# Altium footprint library PCB Library.PcbLib: 18 footprints (part 1 of 2)
Each footprint in its own frame and in the unit in brackets; x right, y up, seen from the top. Pads: shape width x height; smd on the part's side, far side on the other; paste and mask are expansions set on the pad; w line width, h text height; cw(c..) or ccw(c..) is an arc to the next point about the centre after c.
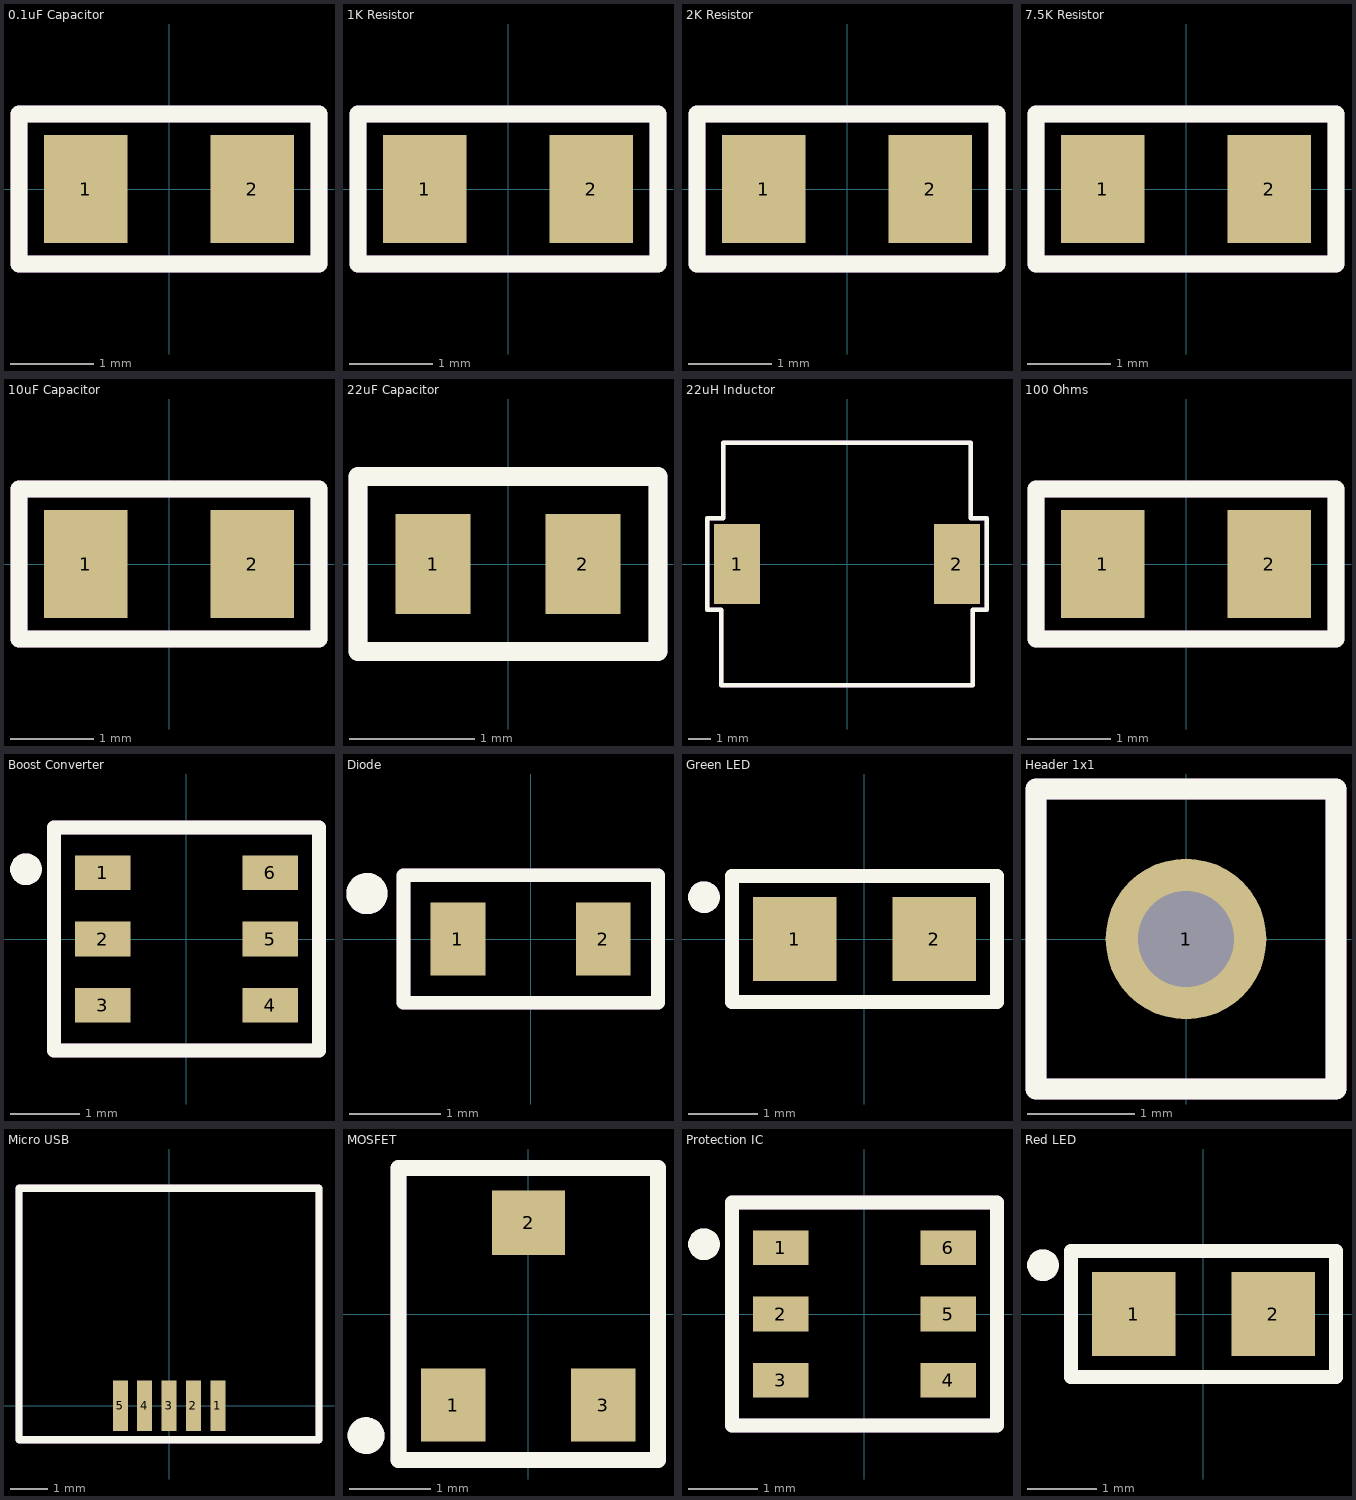
[diagram p0: the footprints below, top view; thin cyan lines are the x and y axes]

## 0.1uF Capacitor [mm]
pads (2):
  rect 1x1.3 smd: 1(-1,0) 2(1,0)
Top Overlay:
  lines w0.2: -1.8,-0.9 -1.8,0.9 1.8,0.9 1.8,-0.9 -1.8,-0.9
Assemble Layer:
  lines w0.2: -1.8,-0.9 -1.8,0.9 1.8,0.9 1.8,-0.9 -1.8,-0.9
  text "'.Designator'" at -1.2,-0.133 h0.5
3D body "0.1uF Capacitor.STEP": height 1.4, standoff 0, extent -1,-0.625 1,0.625

## 1K Resistor [mm]
pads (2):
  rect 1x1.3 smd: 1(-1,0) 2(1,0)
Top Overlay:
  lines w0.2: -1.8,-0.9 -1.8,0.9 1.8,0.9 1.8,-0.9 -1.8,-0.9
Assemble Layer:
  lines w0.2: -1.8,-0.9 -1.8,0.9 1.8,0.9 1.8,-0.9 -1.8,-0.9
  text "'.Designator'" at -1.3,-0.133 h0.5
3D body "1K Resistor.STEP": height 0.61, standoff 0.01, extent -1,-0.625 1,0.625

## 2K Resistor [mm]
pads (2):
  rect 1x1.3 smd: 1(-1,0) 2(1,0)
Top Overlay:
  lines w0.2: -1.8,-0.9 1.8,-0.9 1.8,0.9 -1.8,0.9 -1.8,-0.9
Assemble Layer:
  lines w0.2: -1.8,-0.9 1.8,-0.9 1.8,0.9 -1.8,0.9 -1.8,-0.9
  text "'.Designator'" at -1.3,-0.233 h0.5
3D body "2K Resistor.STEP": height 0.66, standoff 0.01, extent -1,-0.625 1,0.625

## 7.5K Resistor [mm]
pads (2):
  rect 1x1.3 smd: 1(-1,0) 2(1,0)
Top Overlay:
  lines w0.2: -1.8,-0.9 1.8,-0.9 1.8,0.9 -1.8,0.9 -1.8,-0.9
Assemble Layer:
  lines w0.2: -1.8,-0.9 1.8,-0.9 1.8,0.9 -1.8,0.9 -1.8,-0.9
  text "'.Designator'" at -1.3,-0.033 h0.5
3D body "7.5K Resistor.STEP": height 0.61, standoff 0.01, extent -1,-0.625 1,0.625

## 10uF Capacitor [mm]
pads (2):
  rect 1x1.3 smd: 1(-1,0) 2(1,0)
Top Overlay:
  lines w0.2: -1.8,-0.9 -1.8,0.9 1.8,0.9 1.8,-0.9 -1.8,-0.9
Assemble Layer:
  lines w0.2: -1.8,-0.9 -1.8,0.9 1.8,0.9 1.8,-0.9 -1.8,-0.9
  text "'.Designator'" at -1.3,-0.133 h0.5
3D body "10uF Capacitor.STEP": height 0.58, standoff -0.02, extent -1,-0.625 1,0.625

## 22uF Capacitor [mm]
pads (2):
  rect 0.6x0.8 smd: 1(-0.6,0) 2(0.6,0)
Top Overlay:
  lines w0.15: -1.2,-0.7 1.2,-0.7 1.2,0.7 -1.2,0.7 -1.2,-0.7
Assemble Layer:
  lines w0.15: -1.2,-0.7 1.2,-0.7 1.2,0.7 -1.2,0.7 -1.2,-0.7
  text "'.Designator'" at -1,-0.233 h0.5
3D body "22uF Capacitor.STEP": height 1, standoff 0, extent -0.8,-0.4 0.8,0.4

## 22uH Inductor [mm]
pads (2):
  rect 2x3.5 smd: 1(-4.8,0) 2(4.8,0)
Top Overlay:
  lines w0.2: -6.1,-2 -6.1,2 -5.4,2 -5.4,5.3 5.4,5.3 5.4,2 6.1,2 6.1,-2 5.5,-2 5.5,-5.3 -5.5,-5.3 -5.5,-2 -6.1,-2
Assemble Layer:
  lines w0.2: -6.1,-2 -6.1,2 -5.4,2 -5.4,5.3 5.4,5.3 5.4,2 6.1,2 6.1,-2 5.5,-2 5.5,-5.3 -5.5,-5.3 -5.5,-2 -6.1,-2
  text "'.Designator'" at -2.5,-0.133 h0.5
3D body "22uH Inductor.step": height 5.05, standoff 0, extent -5.25,-5.15 5.25,5.15

## 100 Ohms [mm]
pads (2):
  rect 1x1.3 smd: 1(-1,0) 2(1,0)
Top Overlay:
  lines w0.2: -1.8,-0.9 1.8,-0.9 1.8,0.9 -1.8,0.9 -1.8,-0.9
Assemble Layer:
  lines w0.2: -1.8,-0.9 1.8,-0.9 1.8,0.9 -1.8,0.9 -1.8,-0.9
  text "'.Designator'" at -1.3,-0.033 h0.5
3D body "100 Ohms.STEP": height 0.61, standoff 0.01, extent -1,-0.625 1,0.625

## Boost Converter [mm]
pads (6):
  rect 0.8x0.5 smd: 1(-1.2,0.95) 2(-1.2,0) 3(-1.2,-0.95) 4(1.2,-0.95) 5(1.2,0) 6(1.2,0.95)
Top Overlay:
  circle w0.254: c-2.3,1 r0.1
  lines w0.2: -1.9,-1.6 -1.9,1.6 1.9,1.6 1.9,-1.6 -1.9,-1.6
Assemble Layer:
  circle w0.254: c-2.3,1 r0.1
  lines w0.2: -1.9,-1.6 -1.9,1.6 1.9,1.6 1.9,-1.6 -1.9,-1.6
  text "'.Designator'" at -1.3,-0.033 h0.5
3D body "Boost Converter IC.stp": height 1.11, standoff -0.08, extent -1.4,-1.448 1.4,1.448

## Diode [mm]
pads (2):
  rect 0.6x0.8 smd: 1(-0.8,0) 2(0.8,0)
Top Overlay:
  circle w0.254: c-1.8,0.5 r0.1
  lines w0.15: -1.4,-0.7 -1.4,0.7 1.4,0.7 1.4,-0.7 -1.4,-0.7
Assemble Layer:
  circle w0.254: c-1.8,0.5 r0.1
  lines w0.15: -1.4,-0.7 -1.4,0.7 1.4,0.7 1.4,-0.7 -1.4,-0.7
  text "'.Designator'" at -0.9,-0.133 h0.5
3D body "Diode.step": height 0.72, standoff 0, extent -0.851,-0.406 0.851,0.406

## Green LED [mm]
pads (2):
  rect 1.2x1.2 smd: 1(-1,0) 2(1,0)
Top Overlay:
  circle w0.254: c-2.3,0.6 r0.1
  lines w0.2: -1.9,-0.9 1.9,-0.9 1.9,0.9 -1.9,0.9 -1.9,-0.9
Assemble Layer:
  circle w0.254: c-2.3,0.6 r0.1
  lines w0.2: -1.9,-0.9 1.9,-0.9 1.9,0.9 -1.9,0.9 -1.9,-0.9
  text "'.Designator'" at -1.6,-0.233 h0.5
3D body "Green LED.stp": height 0.7, standoff 0, extent -1,-0.625 1,0.625

## Header 1x1 [mm]
pads (1):
  round 1.5 hole 0.9: 1(0,0)
Top Overlay:
  lines w0.2: -1.4,-1.4 1.4,-1.4 1.4,1.4 -1.4,1.4 -1.4,-1.4
Assemble Layer:
  lines w0.2: -1.4,-1.4 1.4,-1.4 1.4,1.4 -1.4,1.4 -1.4,-1.4
  text "'.Designator'" at -1.1,-0.133 h0.5
3D body "1x1 Header.stp": height 5.55, standoff -5.99, extent -1.27,-1.27 1.27,1.27

## Micro USB [mm]
pads (5):
  rect 0.4x1.35 smd: 1(1.3,0) 2(0.65,0) 3(0,0) 4(-0.65,0) 5(-1.3,0)
Top Overlay:
  lines w0.2: -4,-0.9 4,-0.9 4,5.8 -4,5.8 -4,-0.9
Assemble Layer:
  lines w0.2: -4,-0.9 4,-0.9 4,5.8 -4,5.8 -4,-0.9
  text "'.Designator'" at -2.7,2.467 h0.5
3D body "Micro USB.stp": height 2.69, standoff -0.61, extent -4,-0.203 4,5.7

## MOSFET [mm]
pads (3):
  rect 0.8x0.9 smd: 1(-0.925,-1.125) 3(0.925,-1.125)
  rect 0.9x0.8 smd: 2(0.005,1.125)
Top Overlay:
  circle w0.254: c-2,-1.5 r0.1
  lines w0.2: -1.6,-1.8 -1.6,1.8 1.6,1.8 1.6,-1.8 -1.6,-1.8
Assemble Layer:
  circle w0.254: c-2,-1.5 r0.1
  lines w0.2: -1.6,-1.8 -1.6,1.8 1.6,1.8 1.6,-1.8 -1.6,-1.8
  text "'.Designator'" at -1.1,-0.033 h0.5
3D body "MOSFET.step": height 1.09, standoff 0, extent -1.443,-1.22 1.453,1.27

## Protection IC [mm]
pads (6):
  rect 0.8x0.5 smd: 1(-1.2,0.95) 2(-1.2,0) 3(-1.2,-0.95) 4(1.2,-0.95) 5(1.2,0) 6(1.2,0.95)
Top Overlay:
  circle w0.254: c-2.3,1 r0.1
  lines w0.2: -1.9,-1.6 1.9,-1.6 1.9,1.6 -1.9,1.6 -1.9,-1.6
Assemble Layer:
  circle w0.254: c-2.3,1 r0.1
  lines w0.2: -1.9,-1.6 1.9,-1.6 1.9,1.6 -1.9,1.6 -1.9,-1.6
  text "'.Designator'" at -1.3,-0.033 h0.5
3D body "Boost Converter IC.stp": height 1.11, standoff -0.08, extent -1.4,-1.448 1.4,1.448

## Red LED [mm]
pads (2):
  rect 1.2x1.2 smd: 1(-1,0) 2(1,0)
Top Overlay:
  circle w0.254: c-2.3,0.7 r0.1
  lines w0.2: -1.9,-0.9 1.9,-0.9 1.9,0.9 -1.9,0.9 -1.9,-0.9
Assemble Layer:
  circle w0.254: c-2.3,0.7 r0.1
  lines w0.2: -1.9,-0.9 1.9,-0.9 1.9,0.9 -1.9,0.9 -1.9,-0.9
  text "'.Designator'" at -1.7,-0.333 h0.5
3D body "Red LED.stp": height 0.71, standoff 0.01, extent -1,-0.625 1,0.625